# EAGLE library part STM32F301_302C8Y (library STM32F3xx)
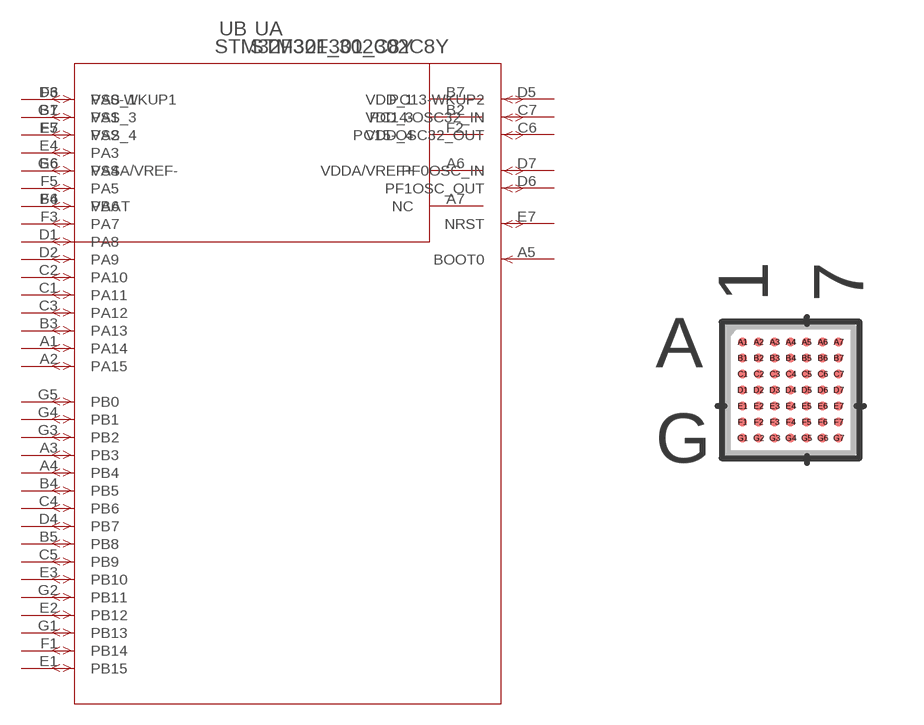
[diagram p1: symbol with the pads of WLCSP49; footprint WLCSP49]

Designator prefix U; gates A=STM32F301_302C8Y B=STM32F301_302C8Y_00

## STM32F301_302C8Y (COPYRIGHT: Copyright C 2016 Accelerated Designs. All rights reserved; MANUFACTURER_PART_NUMBER: stm32f301_302c8y; VENDOR: STMicroelectronics)  [WLCSP49]
A1  A:PA14
A2  A:PA15
A3  A:PB3
A4  A:PB4
A5  A:BOOT0  in
A6  B:VDDA/VREF+  pwr
A7  B:NC  nc
B1  B:VSS_3  pwr
B2  B:VDD_3  pwr
B3  A:PA13
B4  A:PB5
B5  A:PB8
B6  B:VBAT  pwr
B7  B:VDD_1  pwr
C1  A:PA11
C2  A:PA10
C3  A:PA12
C4  A:PB6
C5  A:PB9
C6  A:PC15-OSC32_OUT
C7  A:PC14-OSC32_IN
D1  A:PA8
D2  A:PA9
D3  B:VSS_1  pwr
D4  A:PB7
D5  A:PC13-WKUP2
D6  A:PF1OSC_OUT
D7  A:PF0OSC_IN
E1  A:PB15
E2  A:PB12
E3  A:PB10
E4  A:PA3
E5  A:PA2
E6  B:VSSA/VREF-  pwr
E7  A:NRST
F1  A:PB14
F2  B:VDD_4  pwr
F3  A:PA7
F4  A:PA6
F5  A:PA5
F6  A:PA0-WKUP1
F7  B:VSS_4  pwr
G1  A:PB13
G2  A:PB11
G3  A:PB2
G4  A:PB1
G5  A:PB0
G6  A:PA4
G7  A:PA1

## Footprint WLCSP49 (pad centres in mm)
smd 0.229 x 0.229: A1 -1.2,1.2; A2 -0.8,1.2; A3 -0.4,1.2; A4 0,1.2; A5 0.4,1.2; A6 0.8,1.2; A7 1.2,1.2; B1 -1.2,0.8; B2 -0.8,0.8; B3 -0.4,0.8; B4 0,0.8; B5 0.4,0.8; B6 0.8,0.8; B7 1.2,0.8; C1 -1.2,0.4; C2 -0.8,0.4; C3 -0.4,0.4; C4 0,0.4; C5 0.4,0.4; C6 0.8,0.4; C7 1.2,0.4; D1 -1.2,0; D2 -0.8,0; D3 -0.4,0; D4 0,0; D5 0.4,0; D6 0.8,0; D7 1.2,0; E1 -1.2,-0.4; E2 -0.8,-0.4; E3 -0.4,-0.4; E4 0,-0.4; E5 0.4,-0.4; E6 0.8,-0.4; E7 1.2,-0.4; F1 -1.2,-0.8; F2 -0.8,-0.8; F3 -0.4,-0.8; F4 0,-0.8; F5 0.4,-0.8; F6 0.8,-0.8; F7 1.2,-0.8; G1 -1.2,-1.2; G2 -0.8,-1.2; G3 -0.4,-1.2; G4 0,-1.2; G5 0.4,-1.2; G6 0.8,-1.2; G7 1.2,-1.2